# Altium schematic symbol library Sch_LM2596.SchLib: 1 symbol
Pins are listed as number, name and electrical type; pins without a type are passive.

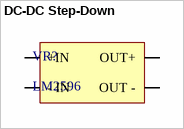
[diagram p0: symbol DC-DC Step-Down]

## DC-DC Step-Down
designator VR?, comment LM2596  (no BOM)
DC-DC конвертер знижуючий 4.5...40В на 1.5...35В на LM2596
footprint DC-DC Step-Down Footprint
pins: 0 - IN (power), 1 +IN (power), 2 OUT+ (power), 3 OUT - (power)